# Altium footprint library Footprints.PcbLib: 96 footprints (part 2 of 6)
Each footprint in its own frame and in the unit in brackets; x right, y up, seen from the top. Pads: shape width x height; smd on the part's side, far side on the other; paste and mask are expansions set on the pad; w line width, h text height; cw(c..) or ccw(c..) is an arc to the next point about the centre after c.
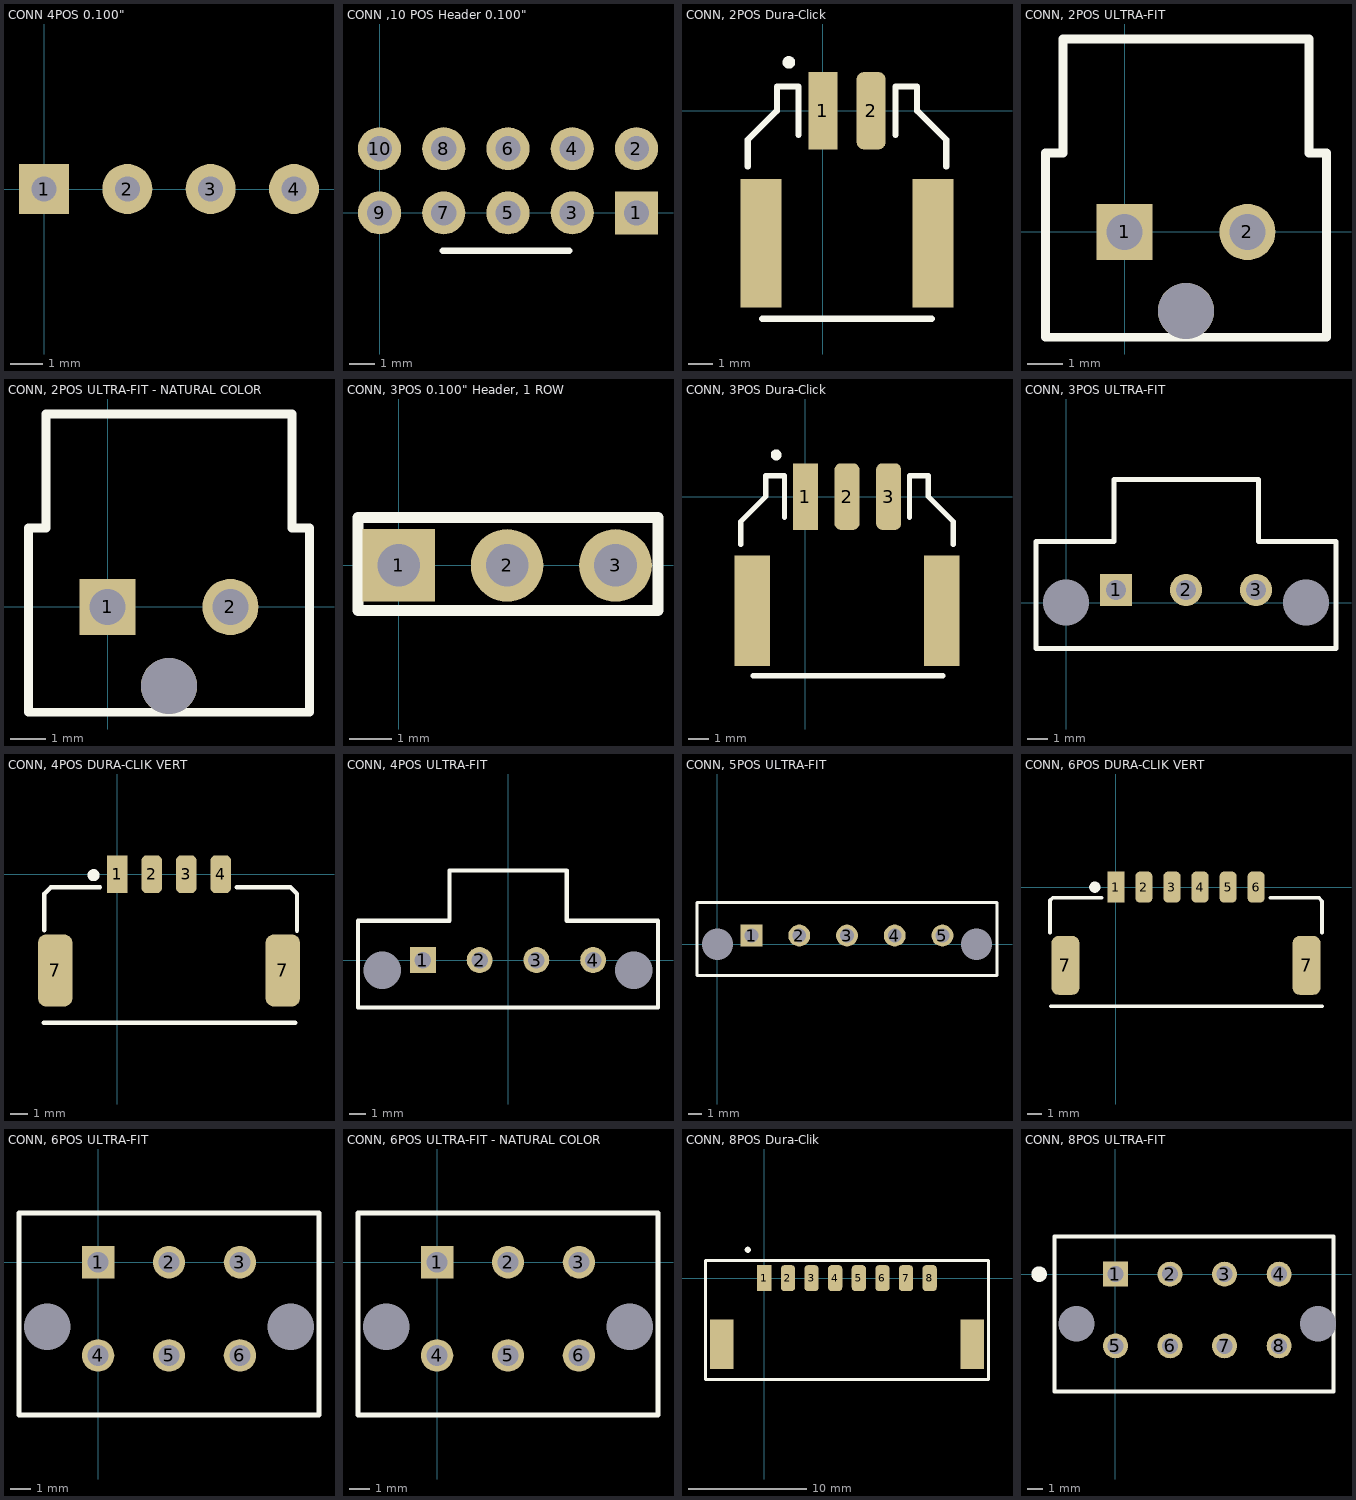
[diagram p1: the footprints below, top view; thin cyan lines are the x and y axes]

## CONN 4POS 0.100" [mil]
pads (4):
  rect 60x60 hole 30: 1(0,0)
  round 60 hole 30: 2(100,0) 3(200,0) 4(300,0)
3D body "STEP-61300411121-rev1.stp": height 336.22, standoff -118.11, extent -49.99,-49.99 350.01,50.01

## CONN ,10 POS Header 0.100" [mm]
pads (10):
  rect 1.7x1.7 hole 1: 1(10.16,0)
  round 1.7 hole 1: 2(10.16,2.54) 3(7.62,0) 4(7.62,2.54) 5(5.08,0) 6(5.08,2.54) 7(2.54,0) 8(2.54,2.54) 9(0,0) 10(0,2.54)
Top Overlay:
  lines w0.254: 2.5,-1.5 7.5,-1.5

## CONN, 2POS Dura-Click [mm] "WM7169CT-ND"
pads (4):
  rect 1.2x3.2 smd: 1(0,0)
  rrect50% 1.2x3.2 smd: 2(2,0)
  rect 1.7x5.3 smd: ""(-2.55,-5.48) ""(4.55,-5.48)
Top Overlay:
  circle w0.26: c-1.4,2 r0.13
  lines w0.254: -3.1,-2.3 -3.1,-1.2 -1.9,0 -1.9,1 -1,1 -1,-1 ; -2.5,-8.6 4.5,-8.6 ; 3,-1 3,1 3.9,1 3.9,0 5.1,-1.2 5.1,-2.3
3D body "5023520200.stp": height 6.39, standoff -0.01, extent -3,-8.4 5,1

## CONN, 2POS ULTRA-FIT [mm] "2 Positions Header, Shrouded Connector 0.138\" (3.50mm) Through Hole Gold"
pads (3):
  rect 1.6x1.6 hole 1.02: 1(0,0)
  round 1.6 hole 1.02: 2(3.5,0)
  round 1.6 hole 1.6: ""(1.75,-2.25)
Top Overlay:
  lines w0.254: -2.25,-3 0,-3 3.5,-3 5.75,-3 5.75,0 5.75,2.25 5.25,2.25 5.25,5.5 -1.75,5.5 -1.75,2.25 -2.25,2.25 -2.25,0 -2.25,-3
3D body "1722861302.stp": height 13.85, standoff -3.1, extent -2.715,-2.849 6.285,5.821

## CONN, 2POS ULTRA-FIT - NATURAL COLOR [mm] "2 Positions Header, Shrouded Connector 0.138\" (3.50mm) Through Hole Gold"
pads (3):
  rect 1.6x1.6 hole 1.02: 1(0,0)
  round 1.6 hole 1.02: 2(3.5,0)
  round 1.6 hole 1.6: ""(1.75,-2.25)
Top Overlay:
  lines w0.254: -2.25,-3 0,-3 3.5,-3 5.75,-3 5.75,0 5.75,2.25 5.25,2.25 5.25,5.5 -1.75,5.5 -1.75,2.25 -2.25,2.25 -2.25,0 -2.25,-3
3D body "1722861302.stp": height 13.85, standoff -3.1, extent -2.715,-2.849 6.285,5.821

## CONN, 3POS 0.100" Header, 1 ROW [mm] "Connector, 3 position 0.1\" (2.54mm) Through Hole Generic Header"
pads (3):
  rect 1.7x1.7 hole 1: 1(0,0)
  round 1.7 hole 1: 2(2.54,0) 3(5.08,0)
Top Overlay:
  lines w0.254: -0.955,-1.059 -0.955,1.121 5.974,1.121 6.076,1.121 6.076,-1.059 -0.955,-1.059

## CONN, 3POS Dura-Click [mm] "WM10858CT-ND"
pads (5):
  rect 1.2x3.2 smd: 1(0,0)
  rrect50% 1.2x3.2 smd: 2(2,0) 3(4,0)
  rect 1.7x5.3 smd: ""(-2.55,-5.48) ""(6.55,-5.48)
Top Overlay:
  circle w0.26: c-1.4,2 r0.13
  lines w0.254: -3.1,-2.3 -3.1,-1.2 -1.9,0 -1.9,1 -1,1 -1,-1 ; -2.5,-8.6 6.6,-8.6 ; 5,-1 5,1 5.9,1 5.9,0 7.1,-1.2 7.1,-2.3
3D body "5023520300.stp": height 6.38, standoff -0.02, extent -3,-8.5 7,0.9

## CONN, 3POS ULTRA-FIT [mm]
pads (5):
  rect 1.6x1.6 hole 1.02: 1(2.5,0.63)
  round 1.6 hole 1.02: 2(6,0.63) 3(9.5,0.63)
  round 0 hole 2.3: ""(0,0) ""(12,0)
Top Overlay:
  lines w0.254: -1.5,-2.3 13.5,-2.3 13.5,3.055 9.625,3.055 9.625,6.155 2.4,6.155 2.4,3.055 -1.5,3.055 -1.5,-2.3

## CONN, 4POS DURA-CLIK VERT [mm]
height 8
pads (6):
  rect 1.2x2.2 smd: 1(0,0)
  rrect50% 1.2x2.2 smd: 2(2,0) 3(4,0) 4(6,0)
  rrect50% 2x4.2 smd: 7(-3.6,-5.58) 7(9.6,-5.58)
Top Overlay:
  circle w0.5: c-1.375,-0.05 r0.1
  lines w0.254: -4.275,-8.61 10.325,-8.61 ; -4.225,-3.25 -4.225,-1.125 -3.85,-0.75 -1,-0.75 ; 6.925,-0.75 10.05,-0.75 10.425,-1.125 10.425,-3.275
3D body "5600200420.stp": height 8, standoff 0, extent -4.275,-8.61 10.325,0.54

## CONN, 4POS ULTRA-FIT [mm]
pads (6):
  rect 1.6x1.6 hole 1.02: 1(-5.25,0)
  round 1.6 hole 1.02: 2(-1.75,0) 3(1.75,0) 4(5.25,0)
  round 0 hole 2.3: ""(-7.75,-0.63) ""(7.75,-0.63)
Top Overlay:
  lines w0.254: -9.25,-2.93 9.25,-2.93 9.25,2.425 3.625,2.425 3.625,5.525 -3.6,5.525 -3.6,2.425 -9.25,2.425 -9.25,-2.93
3D body "1722871104.stp": height 13.85, standoff -3.3, extent -8.79,-2.78 8.81,5.88

## CONN, 5POS ULTRA-FIT [mm]
height 14
pads (7):
  rect 1.6x1.6 hole 1.02: 1(2.5,0.63)
  round 1.6 hole 1.02: 2(6,0.63) 3(9.5,0.63) 4(13,0.63) 5(16.5,0.63)
  round 0 hole 2.3: ""(0,0) ""(19,0)
Top Overlay:
  lines w0.254: -1.5,-2.3 -1.5,3.055 5.85,3.055 20.5,3.055 20.5,-2.3 -1.5,-2.3
3D body "1722871105.stp": height 13.85, standoff -3.3, extent -1.06,-2.21 20.04,6.45

## CONN, 6POS DURA-CLIK VERT [mm]
height 8
pads (8):
  rect 1.2x2.2 smd: 1(0,0)
  rrect50% 1.2x2.2 smd: 2(2,0) 3(4,0) 4(6,0) 5(8,0) 6(10,0)
  rrect50% 2x4.2 smd: 7(-3.6,-5.58) 7(13.6,-5.58)
Top Overlay:
  circle w0.5: c-1.5,0 r0.152
  lines w0.254: -4.7,-3.25 -4.7,-1 -4.7,-0.95 -4.5,-0.75 -1,-0.75 ; -4.65,-8.5 14.7,-8.5 ; 11,-0.75 14.5,-0.75 14.5,-0.8 14.7,-1 14.7,-3.25
3D body "5600200620.stp": height 7.97, standoff -0.03, extent -4.347,-8.543 14.253,0.607

## CONN, 6POS ULTRA-FIT [mm]
pads (8):
  rect 1.6x1.6 hole 1.02: 1(0,0)
  round 1.6 hole 1.02: 2(3.5,0) 3(7,0) 4(0,-4.6) 5(3.5,-4.6) 6(7,-4.6)
  round 0 hole 2.3: ""(-2.5,-3.18) ""(9.5,-3.18)
Top Overlay:
  lines w0.254: -3.9,-7.53 -3.9,2.42 10.9,2.42 10.9,-7.53 -3.9,-7.53
3D body "1722991106.stp": height 13.9, standoff -3.3, extent -3.55,-8.25 10.55,5.66

## CONN, 6POS ULTRA-FIT - NATURAL COLOR [mm]
pads (8):
  rect 1.6x1.6 hole 1.02: 1(0,0)
  round 1.6 hole 1.02: 2(3.5,0) 3(7,0) 4(0,-4.6) 5(3.5,-4.6) 6(7,-4.6)
  round 0 hole 2.3: ""(-2.5,-3.18) ""(9.5,-3.18)
Top Overlay:
  lines w0.254: -3.9,-7.53 10.9,-7.53 10.9,2.42 -3.9,2.42 -3.9,-7.53
3D body "1722991106.stp": height 13.9, standoff -3.3, extent -3.55,-8.25 10.55,5.66

## CONN, 8POS Dura-Clik [mm] "WM10868CT-ND"
pads (10):
  rect 1.2x2.2 smd: 1(0,0)
  rrect50% 1.2x2.2 smd: 2(2,0) 3(4,0) 4(6,0) 5(8,0) 6(10,0) 7(12,0) 8(14,0)
  rect 2x4.2 smd: ""(-3.6,-5.58) ""(17.6,-5.58)
Top Overlay:
  circle w0.26: c-1.4,2.4 r0.13
  lines w0.254: -5,-8.6 19,-8.6 19,1.5 -5,1.5 -5,-8.6
3D body "5600200820.stp": height 8.02, standoff 0.02, extent -4.3,-8.36 18.3,0.79

## CONN, 8POS ULTRA-FIT [mm]
pads (10):
  rect 1.6x1.6 hole 1.02: 1(0,0)
  round 1.6 hole 1.02: 2(3.5,0) 3(7,0) 4(10.5,0) 5(0,-4.6) 6(3.5,-4.6) 7(7,-4.6) 8(10.5,-4.6)
  round 0 hole 2.3: ""(-2.5,-3.18) ""(13,-3.18)
Top Overlay:
  circle w0.6: c-4.9,0 r0.2
  lines w0.254: -3.9,-7.53 -3.9,2.42 14,2.42 14,-7.53 -3.9,-7.53
3D body "1722991108.stp": height 13.9, standoff -3.3, extent -3.64,-8.14 13.96,5.77